# Altium footprint library Tigershark 3D R1.8.PcbLib: 47 footprints (part 1 of 3)
Each footprint in its own frame and in the unit in brackets; x right, y up, seen from the top. Pads: shape width x height; smd on the part's side, far side on the other; paste and mask are expansions set on the pad; w line width, h text height; cw(c..) or ccw(c..) is an arc to the next point about the centre after c.
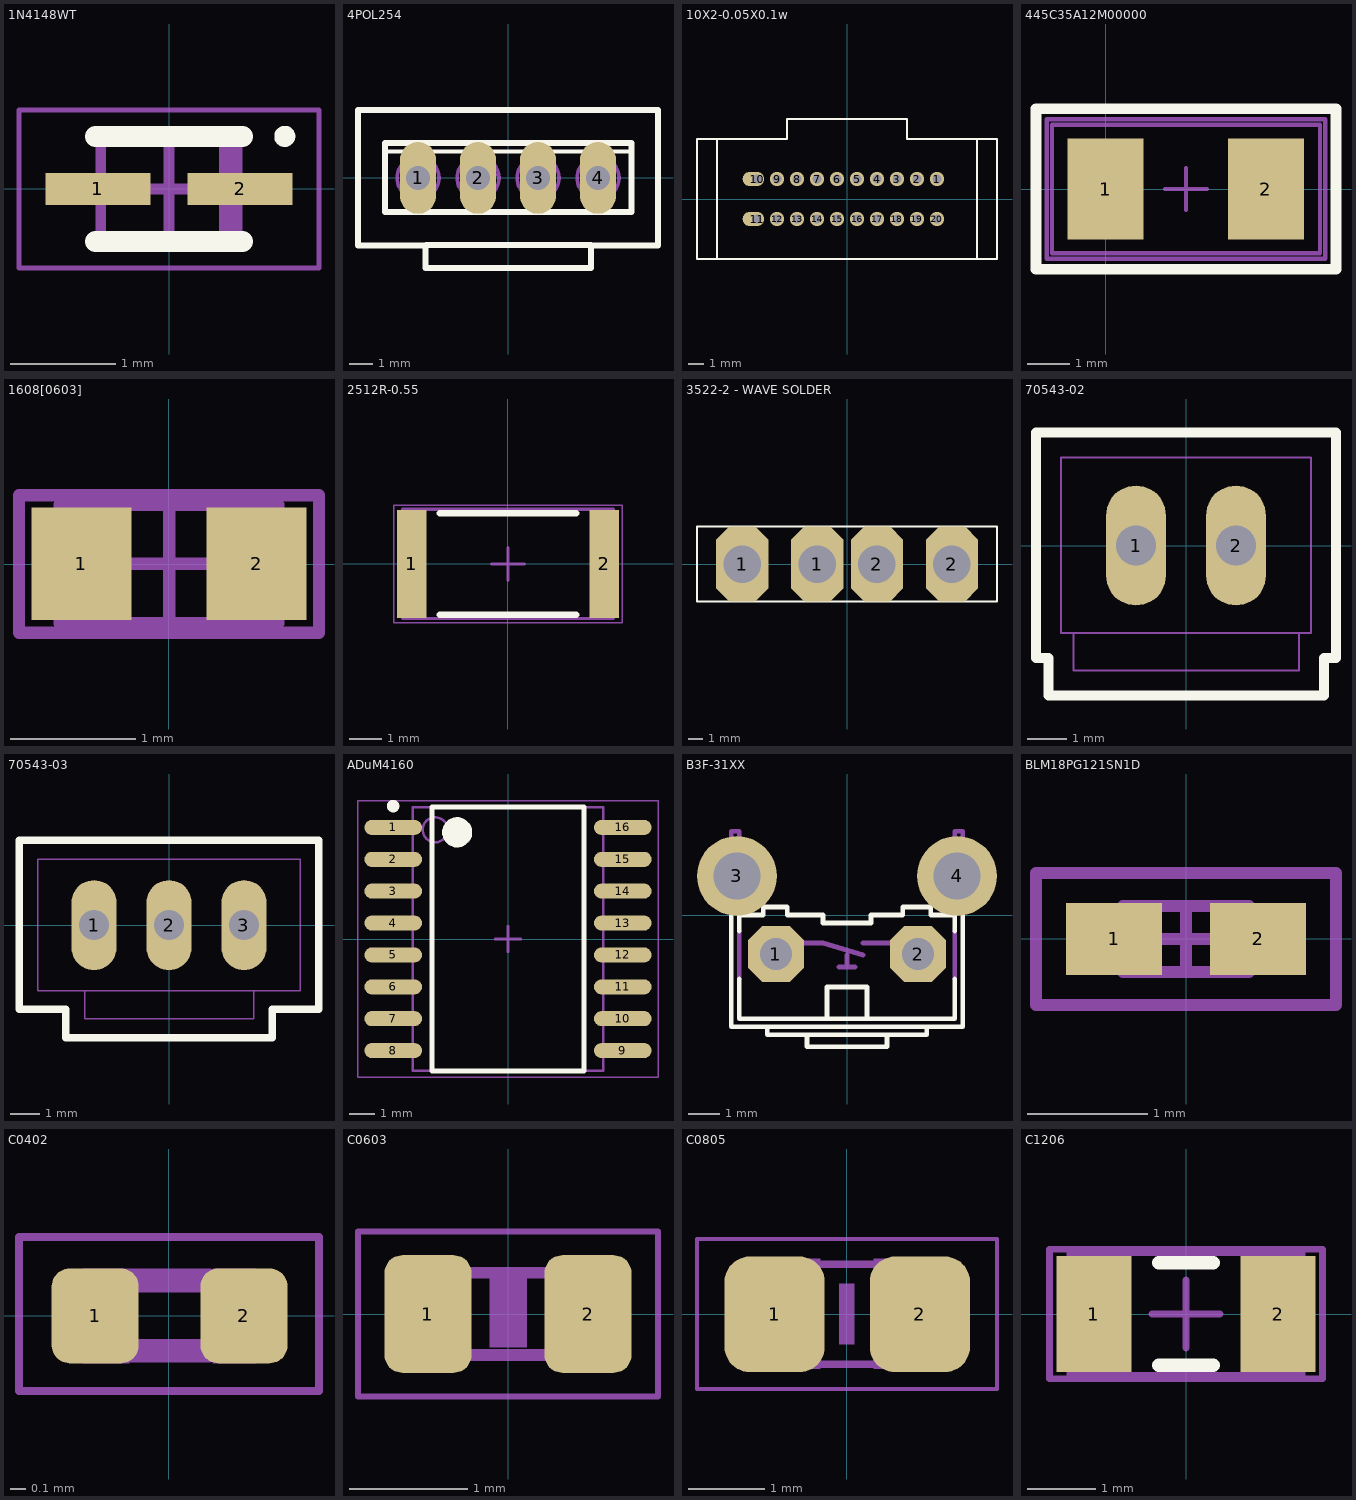
[diagram p0: the footprints below, top view; thin cyan lines are the x and y axes]

## 1N4148WT [mm]
pads (2):
  rect 1x0.3 smd: 1(-0.675,0) 2(0.675,0)
Top Overlay:
  circle w0.1: c1.1,0.5 r0.05
  lines w0.2: -0.7,-0.5 0.7,-0.5 ; -0.7,0.5 0.7,0.5
Mechanical 13:
  rectangle: 0.475,-0.45 0.65,0.45
  lines w0.1: -0.65,-0.45 0.65,-0.45 0.65,0.45 -0.65,0.45 -0.65,-0.45
Mechanical 15:
  lines w0.05: -1.425,-0.75 1.425,-0.75 1.425,0.75 -1.425,0.75 -1.425,-0.75
  lines w0.1: -0.45,0 0.45,0 ; 0,-0.45 0,0.45
3D body: height 0.7, standoff 0, extent -0.65,-0.45 0.65,0.45

## 4POL254 [mil]
pads (4):
  oval 60x120 hole 40: 1(-150,0) 2(-50,0) 3(50,0) 4(150,0)
Top Overlay:
  lines w6: -200.79,44 201,44
  lines w10: -136.77,-112.22 138.73,-112.22 ; -250,-112.5 -137.5,-112.5 -137.5,-150 138,-150 138,-112.5 250,-112.5 250,113 -250,113 -250,-112.5 ; -205.12,-57.09 -205.12,58 206,58 206,-57.09 -205.12,-57.09
Mechanical 16:
  circle w6: c150,0 r35
  circle w6: c50,0 r35
  circle w6: c-50,0 r35
  circle w6: c-150,0 r35
  lines w6: -175,-20 -130,25 ; -80,-10 -20,5 ; 30,25 70,-25 ; 120,15 180,-15
3D body: height 454.33, standoff 118.11, extent -249.98,-149.98 249.98,112.98
3D body: height 118.11, standoff 0, extent -249.98,-112.48 249.98,112.98

## 10X2-0.05X0.1w [mil]
pads (20):
  round 36 hole 22: 1(225,50) 2(175,50) 3(125,50) 4(75,50) 5(25,50) 6(-25,50) 7(-75,50) 8(-125,50) 9(-175,50) 12(-175,-50) 13(-125,-50) 14(-75,-50) 15(-25,-50) 16(25,-50) 17(75,-50) 18(125,-50) 19(175,-50) 20(225,-50)
  oval 54x36 hole 22 copper offset -9,0: 10(-225,50) 11(-225,-50)
Top Overlay:
  lines w5: -325,-150 -375,-150 -375,150 -325,150 ; -325,-150 -325,150 ; -325,-150 325,-150 ; -325,150 -150,150 -150,200 150,200 150,150 325,150 ; 325,-150 375,-150 375,150 325,150 ; 325,-150 325,150
3D body: height 590.55, standoff 0, extent 325.02,-149.98 374.98,149.98
3D body: height 590.55, standoff 0, extent -374.98,-149.98 -325.02,149.98
3D body: height 511.81, standoff 0, extent -324.98,-149.98 324.98,199.98

## 445C35A12M00000 [mm]
pads (2):
  rect 1.8x2.4 smd: 1(0,0) 2(3.8,0)
Top Overlay:
  lines w0.254: -1.651,-1.905 5.461,-1.905 5.461,1.905 -1.651,1.905 -1.651,-1.905
Mechanical 13:
  lines w0.1: -1.27,-1.524 -1.27,1.524 5.08,1.524 5.08,-1.524 -1.27,-1.524
Mechanical 15:
  lines w0.1: 1.405,0 2.405,0 ; 1.905,-0.5 1.905,0.5 ; -1.397,-1.651 5.207,-1.651 5.207,1.651 -1.397,1.651 -1.397,-1.651
3D body: height 1, standoff 0, extent -1.27,-1.524 5.08,1.524

## 1608[0603] [mm]
pads (2):
  rect 0.8x0.9 smd: 1(-0.7,0) 2(0.7,0)
Mechanical 13:
  lines w0.1: -0.875,-0.475 0.875,-0.475 0.875,0.475 -0.875,0.475 -0.875,-0.475
Mechanical 15:
  lines w0.1: -0.475,0 0.475,0 ; 0,-0.475 0,0.475 ; -1.2,-0.55 1.2,-0.55 1.2,0.55 -1.2,0.55 -1.2,-0.55
3D body: height 1.3, standoff 0, extent -0.875,-0.475 0.875,0.475

## 2512R-0.55 [mm]
pads (2):
  rect 0.9x3.3 smd: 1(-2.95,0) 2(2.95,0)
Top Overlay:
  lines w0.2: -2.1,-1.55 2.1,-1.55 ; -2.1,1.55 2.1,1.55
Mechanical 13:
  lines w0.1: -3.225,-1.675 -3.225,1.675 3.225,1.675 3.225,-1.675 -3.225,-1.675
Mechanical 15:
  lines w0.05: -3.5,-1.8 -3.5,1.8 3.5,1.8 3.5,-1.8 -3.5,-1.8
  lines w0.1: -0.5,0 0.5,0 ; 0,-0.5 0,0.5
3D body: height 0.65, standoff 0, extent -2.725,-1.675 2.725,1.675
3D body: height 0.65, standoff 0, extent -3.225,-1.675 -2.725,1.675
3D body: height 0.65, standoff 0, extent 2.725,-1.675 3.225,1.675

## 3522-2 - WAVE SOLDER [mil]
pads (4):
  oct 140x200 hole 100: 1(-280,0) 1(-80,0) 2(80,0) 2(280,0)
Top Overlay:
  lines w5: -400,-100 400,-100 400,100 -400,100 -400,-100
3D body: height 50, standoff 0, extent -402.5,-102.5 402.5,102.5
3D body: height 299.21, standoff 0, extent -354,-74 354,74
3D body: height 708.66, standoff 50, extent -353,-73 353,73

## 70543-02 [mil]
pads (2):
  oval 60x120 hole 40: 1(-50,0) 2(50,0)
Top Overlay:
  lines w10: -150,-112.5 -150,113 150,113 150,-112.5 138,-112.5 138,-150 -137.5,-150 -137.5,-112.5 -150,-112.5
Mechanical 16:
  rectangle: 41.01,-9.37 60.01,10
  rectangle: -59.36,-9.37 -40.61,10
  lines w2: -112.5,-87.5 -125,-87.5 -125,88 125,88 125,-87.5 113,-87.5 ; -112.5,-87.5 113,-87.5 ; -112.5,-87.5 -112.5,-125 113,-125 113,-87.5
  text "1" at -112.5,-62.5 h62
3D body: height 118.11, standoff 0, extent -149.98,-112.48 149.98,112.98
3D body: height 450, standoff 118.11, extent -149.98,-149.98 149.98,112.98

## 70543-03 [mil]
pads (3):
  oval 60x120 hole 40: 1(-100,0) 2(0,0) 3(100,0)
Top Overlay:
  lines w10: -200,-112.5 -137.5,-112.5 -137.5,-150 138,-150 138,-112.5 200,-112.5 200,113 -200,113 -200,-112.5
Mechanical 16:
  rectangle: 91.2,-9.37 110.2,10
  rectangle: -109.18,-9.37 -90.43,10
  rectangle: -9.18,-9.37 10.2,10
  lines w2: -112.5,-87.5 -112.5,-125 113,-125 113,-87.5 ; -112.5,-87.5 113,-87.5 ; -112.5,-87.5 -175,-87.5 -175,88 175,88 175,-87.5 113,-87.5
  text "1" at -162.5,-62.5 h62
3D body: height 450, standoff 0, extent -199.98,-149.98 199.98,112.98

## ADuM4160 [mm]
pads (16):
  oval 2.3x0.6 smd: 1(-4.575,4.445) 2(-4.575,3.175) 3(-4.575,1.905) 4(-4.575,0.635) 5(-4.575,-0.635) 6(-4.575,-1.905) 7(-4.575,-3.175) 8(-4.575,-4.445) 9(4.575,-4.445) 10(4.575,-3.175) 11(4.575,-1.905) 12(4.575,-0.635) 13(4.575,0.635) 14(4.575,1.905) 15(4.575,3.175) 16(4.575,4.445)
Top Overlay:
  circle w0.25: c-4.575,5.295 r0.125
  circle w0.6: c-2.025,4.25 r0.3
  lines w0.2: -3.025,-5.25 -3.025,5.25 3.025,5.25 3.025,-5.25 -3.025,-5.25
Mechanical 13:
  circle w0.1: c-2.9,4.35 r0.5
  lines w0.1: -3.8,-5.25 -3.8,5.25 3.8,5.25 3.8,-5.25 -3.8,-5.25
Mechanical 15:
  lines w0.05: -5.975,-5.5 -5.975,5.5 5.975,5.5 5.975,-5.5 -5.975,-5.5
  lines w0.1: -0.5,0 0.5,0 ; 0,-0.5 0,0.5
3D body: height 2.65, standoff 0.1, extent -3.8,-5.25 3.8,5.25

## B3F-31XX [mil]
pads (4):
  oct 70x70 hole 40: 1(-89,-49) 2(89,-49)
  round 100 hole 59: 3(-138,49) 4(138,49)
Top Overlay:
  lines w6: -145,0 -145,-140 100,-140 ; -135,-80 -135,-130 -25,-130 ; -135,-20 -135,0 -105,0 -105,10 -75,10 -75,0 -30,0 -30,-10 30,-10 30,0 70,0 70,10 105,10 105,0 135,0 135,-20 ; -100,-140 -100,-150 -50,-150 ; 135,-80 135,-130 25,-130 ; 145,0 145,-140 100,-140 ; -50,-150 50,-150 ; -50,-150 -50,-165 50,-165 50,-150 ; -25,-130 25,-130 ; -25,-130 -25,-90 25,-90 25,-130 ; 50,-150 100,-150 100,-140
Mechanical 16:
  lines w6: -145,0 -145,105 -135,105 -135,0 ; -135,-80 -135,-20 ; -65,-35 -30,-35 20,-50 ; -10,-65 0,-65 ; 0,-50 0,-65 ; 10,-65 0,-65 ; 20,-35 65,-35 ; 135,-80 135,-20 ; 135,0 135,105 145,105 145,0
3D body: height 303.15, standoff -137.8, extent -165.35,-200 165.35,109.06

## BLM18PG121SN1D [mm]
pads (2):
  rect 0.8x0.6 smd: 1(-0.6,0) 2(0.6,0)
Mechanical 13:
  lines w0.1: -0.525,-0.275 0.525,-0.275 0.525,0.275 -0.525,0.275 -0.525,-0.275
Mechanical 15:
  lines w0.1: -0.275,0 0.275,0 ; 0,-0.275 0,0.275 ; -1.25,-0.55 1.25,-0.55 1.25,0.55 -1.25,0.55 -1.25,-0.55
3D body: height 0.6, standoff 0, extent -0.525,-0.275 0.525,0.275

## C0402 [mil]
pads (2):
  rrect40% 22x24 smd: 1(-18.7,0) 2(19,0)
Mechanical 16:
  rectangle: -21.8,-12 -9.98,12
  rectangle: 11,-12 22,12
  lines w2: -37.99,-19.02 38,-19.02 38,20 -37.99,20 -37.99,-19.02
  lines w6: -9.65,-8.82 10,-8.82 ; -9.65,9 10,9
3D body: height 19.68, standoff 0, extent -20,-10 20,10

## C0603 [mm]
pads (2):
  rrect40% 0.74x1 smd: 1(-0.68,0) 2(0.68,0)
Mechanical 6:
  rectangle: -0.159,-0.285 0.161,0.315
Mechanical 16:
  rectangle: -0.8,-0.4 -0.45,0.4
  rectangle: 0.45,-0.4 0.8,0.4
  lines w0.051: -1.275,-0.7 1.275,-0.7 1.275,0.7 -1.275,0.7 -1.275,-0.7
  lines w0.1: -0.45,0.35 0.45,0.35
  lines w0.102: -0.45,-0.35 0.45,-0.35
3D body: height 0.8, standoff 0, extent -0.8,-0.4 0.8,0.4

## C0805 [mil]
pads (2):
  rrect50% 52x60 smd: 1(-37.4,0) 2(38,0)
Mechanical 6:
  rectangle: -3.94,-15.75 4,16
Mechanical 16:
  rectangle: -43,-28.5 -13.47,29
  rectangle: 14,-28.5 44,29
  lines w2: -77.68,-38.7 78,-38.7 78,39 -77.68,39 -77.68,-38.7
  lines w4: -15,26 15,26 ; -14.02,-25.98 15,-25.98
3D body: height 35.43, standoff 0, extent -40,-30 40,30

## C1206 [mm]
pads (2):
  rect 1.1x1.7 smd: 1(-1.35,0) 2(1.35,0)
Top Overlay:
  lines w0.2: -0.4,-0.75 0.4,-0.75 ; -0.4,0.75 0.4,0.75
Mechanical 13:
  lines w0.1: -1.7,-0.9 -1.7,0.9 1.7,0.9 1.7,-0.9 -1.7,-0.9
Mechanical 15:
  lines w0.1: -0.5,0 0.5,0 ; 0,-0.5 0,0.5 ; -2,-0.95 -2,0.95 2,0.95 2,-0.95 -2,-0.95
3D body: height 1.3, standoff 0, extent -1.7,-0.9 1.7,0.9